# EAGLE library part STC3115 (library MakeItLabs)
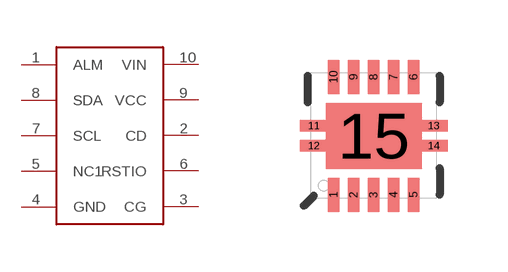
[diagram p8: symbol with the pads of QFN-10_PAD; footprint QFN-10_PAD]

Designator prefix -

## STC3115DF  [QFN-10_PAD]
1  ALM
2  CD
3  CG
4  GND
5  NC1
6  RSTIO
7  SCL
8  SDA
9  VCC
10  VIN

## Footprint QFN-10_PAD (pad centres in mm)
smd 0.297 x 0.85: 1 -1,-1.475; 2 -0.5,-1.475; 3 0,-1.475; 4 0.5,-1.475; 5 1,-1.475; 6 1,1.475; 7 0.5,1.475; 8 0,1.475; 9 -0.5,1.475; 10 -1,1.475
smd 0.7 x 0.28: 11 -1.5,0.25; 12 -1.5,-0.25; 13 1.5,0.25; 14 1.5,-0.25
smd 2.4 x 1.65: 15 0,0